# Altium integrated library Xilinx Kintex-7.IntLib: 108 symbols (part 9 of 39)
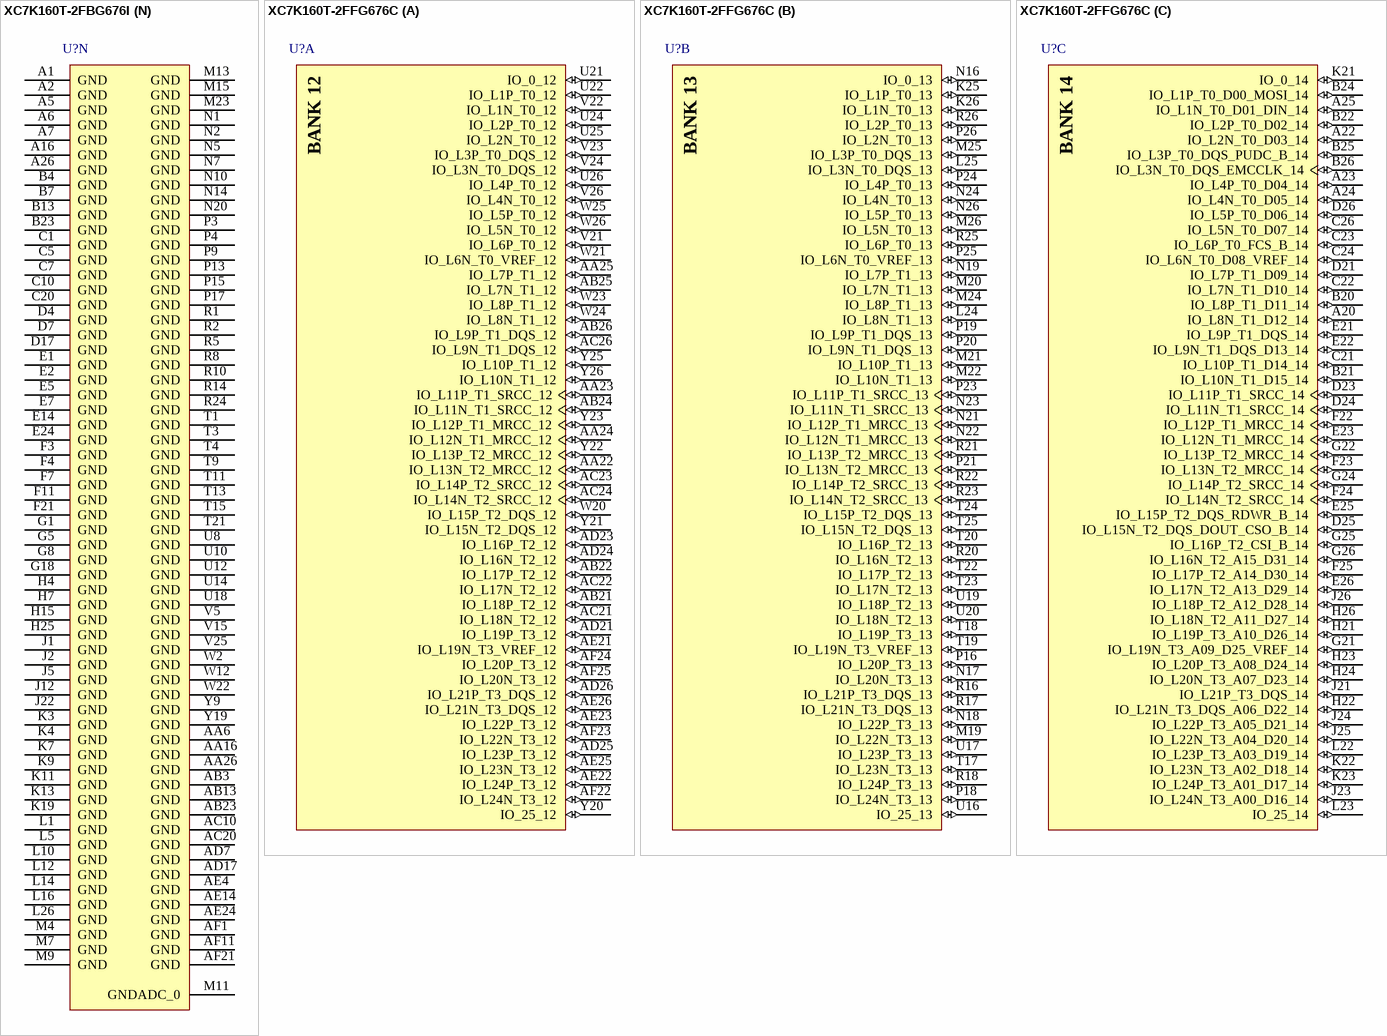
[diagram p300: symbols XC7K160T-2FBG676I to XC7K160T-2FFG676C]

## XC7K160T-2FBG676I
designator U?
Kintex-7 FPGA, 400 User I/Os, 8 GTX, 676-Ball BGA, Speed Grade 2, Industrial Grade, Pb-Free; Generic Part Number: XC7K160T; Manufacturer: Xilinx; PartNumber: XC7K160T-2FBG676I; GTX: 8; SelectIO HP: 150; SelectIO HR: 250; Speed Grade: -2; DatasheetVersion: v1.12; PackageVersion: Rev 1.8; PackageReference: FBG676; PackageDescription: Flip-Chip Lidless BGA, Body 27 x 27 mm, 1.0 mm Pitch; RoHS: Pb-Free; Mounting Technology: Surface Mount; Code_JEDEC: MS-034; ComponentLink1Description: Datasheet; ComponentLink1URL: http://www.xilinx.com/support/documentation/data_sheets/ds180_7Series_Overview.pdf; ComponentLink2Description: Package Specification; ComponentLink2URL: http://www.xilinx.com/support/documentation/user_guides/ug475_7Series_Pkg_Pinout.pdf
footprint FBG676 (BGA, 676-Balls, Body 27x27mm, Pitch 1.0mm)
part A pins: AA22 IO_L13N_T2_MRCC_12 (io), AA23 IO_L11P_T1_SRCC_12 (io), AA24 IO_L12N_T1_MRCC_12 (io), AA25 IO_L7P_T1_12 (io), AB21 IO_L18P_T2_12 (io), AB22 IO_L17P_T2_12 (io), AB24 IO_L11N_T1_SRCC_12 (io), AB25 IO_L7N_T1_12 (io), AB26 IO_L9P_T1_DQS_12 (io), AC21 IO_L18N_T2_12 (io), AC22 IO_L17N_T2_12 (io), AC23 IO_L14P_T2_SRCC_12 (io), AC24 IO_L14N_T2_SRCC_12 (io), AC26 IO_L9N_T1_DQS_12 (io), AD21 IO_L19P_T3_12 (io), AD23 IO_L16P_T2_12 (io), AD24 IO_L16N_T2_12 (io), AD25 IO_L23P_T3_12 (io), AD26 IO_L21P_T3_DQS_12 (io), AE21 IO_L19N_T3_VREF_12 (io), AE22 IO_L24P_T3_12 (io), AE23 IO_L22P_T3_12 (io), AE25 IO_L23N_T3_12 (io), AE26 IO_L21N_T3_DQS_12 (io), AF22 IO_L24N_T3_12 (io), AF23 IO_L22N_T3_12 (io), AF24 IO_L20P_T3_12 (io), AF25 IO_L20N_T3_12 (io), U21 IO_0_12 (io), U22 IO_L1P_T0_12 (io), U24 IO_L2P_T0_12 (io), U25 IO_L2N_T0_12 (io), U26 IO_L4P_T0_12 (io), V21 IO_L6P_T0_12 (io), V22 IO_L1N_T0_12 (io), V23 IO_L3P_T0_DQS_12 (io), V24 IO_L3N_T0_DQS_12 (io), V26 IO_L4N_T0_12 (io), W20 IO_L15P_T2_DQS_12 (io), W21 IO_L6N_T0_VREF_12 (io), W23 IO_L8P_T1_12 (io), W24 IO_L8N_T1_12 (io), W25 IO_L5P_T0_12 (io), W26 IO_L5N_T0_12 (io), Y20 IO_25_12 (io), Y21 IO_L15N_T2_DQS_12 (io), Y22 IO_L13P_T2_MRCC_12 (io), Y23 IO_L12P_T1_MRCC_12 (io), Y25 IO_L10P_T1_12 (io), Y26 IO_L10N_T1_12 (io)
part B pins: K25 IO_L1P_T0_13 (io), K26 IO_L1N_T0_13 (io), L24 IO_L8N_T1_13 (io), L25 IO_L3N_T0_DQS_13 (io), M19 IO_L22N_T3_13 (io), M20 IO_L7N_T1_13 (io), M21 IO_L10P_T1_13 (io), M22 IO_L10N_T1_13 (io), M24 IO_L8P_T1_13 (io), M25 IO_L3P_T0_DQS_13 (io), M26 IO_L5N_T0_13 (io), N16 IO_0_13 (io), N17 IO_L20N_T3_13 (io), N18 IO_L22P_T3_13 (io), N19 IO_L7P_T1_13 (io), N21 IO_L12P_T1_MRCC_13 (io), N22 IO_L12N_T1_MRCC_13 (io), N23 IO_L11N_T1_SRCC_13 (io), N24 IO_L4N_T0_13 (io), N26 IO_L5P_T0_13 (io), P16 IO_L20P_T3_13 (io), P18 IO_L24N_T3_13 (io), P19 IO_L9P_T1_DQS_13 (io), P20 IO_L9N_T1_DQS_13 (io), P21 IO_L13N_T2_MRCC_13 (io), P23 IO_L11P_T1_SRCC_13 (io), P24 IO_L4P_T0_13 (io), P25 IO_L6N_T0_VREF_13 (io), P26 IO_L2N_T0_13 (io), R16 IO_L21P_T3_DQS_13 (io), R17 IO_L21N_T3_DQS_13 (io), R18 IO_L24P_T3_13 (io), R20 IO_L16N_T2_13 (io), R21 IO_L13P_T2_MRCC_13 (io), R22 IO_L14P_T2_SRCC_13 (io), R23 IO_L14N_T2_SRCC_13 (io), R25 IO_L6P_T0_13 (io), R26 IO_L2P_T0_13 (io), T17 IO_L23N_T3_13 (io), T18 IO_L19P_T3_13 (io), T19 IO_L19N_T3_VREF_13 (io), T20 IO_L16P_T2_13 (io), T22 IO_L17P_T2_13 (io), T23 IO_L17N_T2_13 (io), T24 IO_L15P_T2_DQS_13 (io), T25 IO_L15N_T2_DQS_13 (io), U16 IO_25_13 (io), U17 IO_L23P_T3_13 (io), U19 IO_L18P_T2_13 (io), U20 IO_L18N_T2_13 (io)
part C pins: A20 IO_L8N_T1_D12_14 (io), A22 IO_L2N_T0_D03_14 (io), A23 IO_L4P_T0_D04_14 (io), A24 IO_L4N_T0_D05_14 (io), A25 IO_L1N_T0_D01_DIN_14 (io), B20 IO_L8P_T1_D11_14 (io), B21 IO_L10N_T1_D15_14 (io), B22 IO_L2P_T0_D02_14 (io), B24 IO_L1P_T0_D00_MOSI_14 (io), B25 IO_L3P_T0_DQS_PUDC_B_14 (io), B26 IO_L3N_T0_DQS_EMCCLK_14 (io), C21 IO_L10P_T1_D14_14 (io), C22 IO_L7N_T1_D10_14 (io), C23 IO_L6P_T0_FCS_B_14 (io), C24 IO_L6N_T0_D08_VREF_14 (io), C26 IO_L5N_T0_D07_14 (io), D21 IO_L7P_T1_D09_14 (io), D23 IO_L11P_T1_SRCC_14 (io), D24 IO_L11N_T1_SRCC_14 (io), D25 IO_L15N_T2_DQS_DOUT_CSO_B_14 (io), D26 IO_L5P_T0_D06_14 (io), E21 IO_L9P_T1_DQS_14 (io), E22 IO_L9N_T1_DQS_D13_14 (io), E23 IO_L12N_T1_MRCC_14 (io), E25 IO_L15P_T2_DQS_RDWR_B_14 (io), E26 IO_L17N_T2_A13_D29_14 (io), F22 IO_L12P_T1_MRCC_14 (io), F23 IO_L13N_T2_MRCC_14 (io), F24 IO_L14N_T2_SRCC_14 (io), F25 IO_L17P_T2_A14_D30_14 (io), G21 IO_L19N_T3_A09_D25_VREF_14 (io), G22 IO_L13P_T2_MRCC_14 (io), G24 IO_L14P_T2_SRCC_14 (io), G25 IO_L16P_T2_CSI_B_14 (io), G26 IO_L16N_T2_A15_D31_14 (io), H21 IO_L19P_T3_A10_D26_14 (io), H22 IO_L21N_T3_DQS_A06_D22_14 (io), H23 IO_L20P_T3_A08_D24_14 (io), H24 IO_L20N_T3_A07_D23_14 (io), H26 IO_L18N_T2_A11_D27_14 (io), J21 IO_L21P_T3_DQS_14 (io), J23 IO_L24N_T3_A00_D16_14 (io), J24 IO_L22P_T3_A05_D21_14 (io), J25 IO_L22N_T3_A04_D20_14 (io), J26 IO_L18P_T2_A12_D28_14 (io), K21 IO_0_14 (io), K22 IO_L23N_T3_A02_D18_14 (io), K23 IO_L24P_T3_A01_D17_14 (io), L22 IO_L23P_T3_A03_D19_14 (io), L23 IO_25_14 (io)
part D pins: A17 IO_L3N_T0_DQS_AD1N_15 (io), A18 IO_L2P_T0_AD8P_15 (io), A19 IO_L2N_T0_AD8N_15 (io), B16 IO_L1N_T0_AD0N_15 (io), B17 IO_L3P_T0_DQS_AD1P_15 (io), B19 IO_L4N_T0_AD9N_15 (io), C16 IO_L1P_T0_AD0P_15 (io), C17 IO_L5P_T0_AD2P_15 (io), C18 IO_L5N_T0_AD2N_15 (io), C19 IO_L4P_T0_AD9P_15 (io), D15 IO_L6P_T0_15 (io), D16 IO_L6N_T0_VREF_15 (io), D18 IO_L13N_T2_MRCC_15 (io), D19 IO_L15P_T2_DQS_15 (io), D20 IO_L15N_T2_DQS_ADV_B_15 (io), E15 IO_L10P_T1_AD4P_15 (io), E16 IO_L10N_T1_AD4N_15 (io), E17 IO_L12N_T1_MRCC_AD5N_15 (io), E18 IO_L13P_T2_MRCC_15 (io), E20 IO_L17N_T2_A25_15 (io), F15 IO_L8N_T1_AD3N_15 (io), F17 IO_L12P_T1_MRCC_AD5P_15 (io), F18 IO_L11N_T1_SRCC_AD12N_15 (io), F19 IO_L17P_T2_A26_15 (io), F20 IO_L16N_T2_A27_15 (io), G15 IO_L8P_T1_AD3P_15 (io), G16 IO_L7N_T1_AD10N_15 (io), G17 IO_L11P_T1_SRCC_AD12P_15 (io), G19 IO_L16P_T2_A28_15 (io), G20 IO_L18N_T2_A23_15 (io), H16 IO_L7P_T1_AD10P_15 (io), H17 IO_L14P_T2_SRCC_15 (io), H18 IO_L14N_T2_SRCC_15 (io), H19 IO_L18P_T2_A24_15 (io), J15 IO_L9P_T1_DQS_AD11P_15 (io), J16 IO_L9N_T1_DQS_AD11N_15 (io), J18 IO_L20P_T3_A20_15 (io), J19 IO_L20N_T3_A19_15 (io), J20 IO_L19N_T3_A21_VREF_15 (io), K15 IO_0_15 (io), K16 IO_L22P_T3_A17_15 (io), K17 IO_L22N_T3_A16_15 (io), K18 IO_L24N_T3_RS0_15 (io), K20 IO_L19P_T3_A22_15 (io), L17 IO_L24P_T3_RS1_15 (io), L18 IO_L23N_T3_FWE_B_15 (io), L19 IO_L21P_T3_DQS_15 (io), L20 IO_L21N_T3_DQS_A18_15 (io), M16 IO_25_15 (io), M17 IO_L23P_T3_FOE_B_15 (io)
part E pins: A8 IO_L9N_T1_DQS_16 (io), A9 IO_L9P_T1_DQS_16 (io), A10 IO_L22N_T3_16 (io), A12 IO_L24N_T3_16 (io), A13 IO_L24P_T3_16 (io), A14 IO_L21N_T3_DQS_16 (io), A15 IO_L23N_T3_16 (io), B9 IO_L10N_T1_16 (io), B10 IO_L22P_T3_16 (io), B11 IO_L20N_T3_16 (io), B12 IO_L20P_T3_16 (io), B14 IO_L21P_T3_DQS_16 (io), B15 IO_L23P_T3_16 (io), C9 IO_L10P_T1_16 (io), C11 IO_L13N_T2_MRCC_16 (io), C12 IO_L13P_T2_MRCC_16 (io), C13 IO_L19N_T3_VREF_16 (io), C14 IO_L19P_T3_16 (io), D8 IO_L8N_T1_16 (io), D9 IO_L8P_T1_16 (io), D10 IO_L12N_T1_MRCC_16 (io), D11 IO_L14N_T2_SRCC_16 (io), D13 IO_L17N_T2_16 (io), D14 IO_L17P_T2_16 (io), E10 IO_L12P_T1_MRCC_16 (io), E11 IO_L14P_T2_SRCC_16 (io), E12 IO_L18N_T2_16 (io), E13 IO_L18P_T2_16 (io), F8 IO_L7N_T1_16 (io), F9 IO_L7P_T1_16 (io), F10 IO_L11N_T1_SRCC_16 (io), F12 IO_L16N_T2_16 (io), F13 IO_L15N_T2_DQS_16 (io), F14 IO_L15P_T2_DQS_16 (io), G9 IO_L2N_T0_16 (io), G10 IO_L2P_T0_16 (io), G11 IO_L11P_T1_SRCC_16 (io), G12 IO_L16P_T2_16 (io), G14 IO_L5N_T0_16 (io), H8 IO_L1N_T0_16 (io), H9 IO_L1P_T0_16 (io), H11 IO_L6N_T0_VREF_16 (io), H12 IO_L6P_T0_16 (io), H13 IO_L3N_T0_DQS_16 (io), H14 IO_L5P_T0_16 (io), J8 IO_0_16 (io), J10 IO_L4N_T0_16 (io), J11 IO_L4P_T0_16 (io), J13 IO_L3P_T0_DQS_16 (io), J14 IO_25_16 (io)
part F pins: AA14 IO_L7P_T1_32 (io), AA15 IO_L7N_T1_32 (io), AA17 IO_L11P_T1_SRCC_32 (io), AA18 IO_L11N_T1_SRCC_32 (io), AA19 IO_L16P_T2_32 (io), AA20 IO_L16N_T2_32 (io), AB14 IO_L10P_T1_32 (io), AB15 IO_L10N_T1_32 (io), AB16 IO_L12P_T1_MRCC_32 (io), AB17 IO_L14P_T2_SRCC_32 (io), AB19 IO_L18P_T2_32 (io), AB20 IO_L18N_T2_32 (io), AC14 IO_L8P_T1_32 (io), AC16 IO_L12N_T1_MRCC_32 (io), AC17 IO_L14N_T2_SRCC_32 (io), AC18 IO_L13P_T2_MRCC_32 (io), AC19 IO_L17P_T2_32 (io), AD14 IO_L8N_T1_32 (io), AD15 IO_L4P_T0_32 (io), AD16 IO_L6P_T0_32 (io), AD18 IO_L13N_T2_MRCC_32 (io), AD19 IO_L17N_T2_32 (io), AD20 IO_L15P_T2_DQS_32 (io), AE15 IO_L4N_T0_32 (io), AE16 IO_L6N_T0_VREF_32 (io), AE17 IO_L1P_T0_32 (io), AE18 IO_L3P_T0_DQS_32 (io), AE20 IO_L15N_T2_DQS_32 (io), AF14 IO_L2P_T0_32 (io), AF15 IO_L2N_T0_32 (io), AF17 IO_L1N_T0_32 (io), AF18 IO_L3N_T0_DQS_32 (io), AF19 IO_L5P_T0_32 (io), AF20 IO_L5N_T0_32 (io), V13 IO_0_VRN_32 (io), V14 IO_L24P_T3_32 (io), V16 IO_L20P_T3_32 (io), V17 IO_L20N_T3_32 (io), V18 IO_L23P_T3_32 (io), V19 IO_L23N_T3_32 (io), W13 IO_25_VRP_32 (io), W14 IO_L24N_T3_32 (io), W15 IO_L22P_T3_32 (io), W16 IO_L22N_T3_32 (io), W18 IO_L21P_T3_DQS_32 (io), W19 IO_L21N_T3_DQS_32 (io), Y15 IO_L9P_T1_DQS_32 (io), Y16 IO_L9N_T1_DQS_32 (io), Y17 IO_L19P_T3_32 (io), Y18 IO_L19N_T3_VREF_32 (io)
part G pins: AA7 IO_L8N_T1_33 (io), AA8 IO_L8P_T1_33 (io), AA9 IO_L11P_T1_SRCC_33 (io), AA10 IO_L14P_T2_SRCC_33 (io), AA12 IO_L16N_T2_33 (io), AA13 IO_L16P_T2_33 (io), AB7 IO_L10P_T1_33 (io), AB9 IO_L11N_T1_SRCC_33 (io), AB10 IO_L14N_T2_SRCC_33 (io), AB11 IO_L13P_T2_MRCC_33 (io), AB12 IO_L15P_T2_DQS_33 (io), AC7 IO_L10N_T1_33 (io), AC8 IO_L9P_T1_DQS_33 (io), AC9 IO_L12P_T1_MRCC_33 (io), AC11 IO_L13N_T2_MRCC_33 (io), AC12 IO_L15N_T2_DQS_33 (io), AC13 IO_L17P_T2_33 (io), AD8 IO_L9N_T1_DQS_33 (io), AD9 IO_L12N_T1_MRCC_33 (io), AD10 IO_L20P_T3_33 (io), AD11 IO_L19P_T3_33 (io), AD13 IO_L17N_T2_33 (io), AE7 IO_L7P_T1_33 (io), AE8 IO_L22P_T3_33 (io), AE10 IO_L20N_T3_33 (io), AE11 IO_L19N_T3_VREF_33 (io), AE12 IO_L21P_T3_DQS_33 (io), AE13 IO_L23P_T3_33 (io), AF7 IO_L7N_T1_33 (io), AF8 IO_L22N_T3_33 (io), AF9 IO_L24N_T3_33 (io), AF10 IO_L24P_T3_33 (io), AF12 IO_L21N_T3_DQS_33 (io), AF13 IO_L23N_T3_33 (io), U9 IO_0_VRN_33 (io), V7 IO_L2N_T0_33 (io), V8 IO_L2P_T0_33 (io), V9 IO_L6P_T0_33 (io), V11 IO_L1P_T0_33 (io), V12 IO_25_VRP_33 (io), W8 IO_L6N_T0_VREF_33 (io), W9 IO_L3N_T0_DQS_33 (io), W10 IO_L3P_T0_DQS_33 (io), W11 IO_L1N_T0_33 (io), Y7 IO_L4N_T0_33 (io), Y8 IO_L4P_T0_33 (io), Y10 IO_L5N_T0_33 (io), Y11 IO_L5P_T0_33 (io), Y12 IO_L18N_T2_33 (io), Y13 IO_L18P_T2_33 (io)
part H pins: AA2 IO_L12N_T1_MRCC_34 (io), AA3 IO_L12P_T1_MRCC_34 (io), AA4 IO_L13P_T2_MRCC_34 (io), AA5 IO_L15P_T2_DQS_34 (io), AB1 IO_L9P_T1_DQS_34 (io), AB2 IO_L11P_T1_SRCC_34 (io), AB4 IO_L13N_T2_MRCC_34 (io), AB5 IO_L15N_T2_DQS_34 (io), AB6 IO_L16P_T2_34 (io), AC1 IO_L9N_T1_DQS_34 (io), AC2 IO_L11N_T1_SRCC_34 (io), AC3 IO_L14N_T2_SRCC_34 (io), AC4 IO_L14P_T2_SRCC_34 (io), AC6 IO_L16N_T2_34 (io), AD1 IO_L20P_T3_34 (io), AD3 IO_L19N_T3_VREF_34 (io), AD4 IO_L19P_T3_34 (io), AD5 IO_L18N_T2_34 (io), AD6 IO_L18P_T2_34 (io), AE1 IO_L20N_T3_34 (io), AE2 IO_L22N_T3_34 (io), AE3 IO_L22P_T3_34 (io), AE5 IO_L23N_T3_34 (io), AE6 IO_L23P_T3_34 (io), AF2 IO_L24N_T3_34 (io), AF3 IO_L24P_T3_34 (io), AF4 IO_L21N_T3_DQS_34 (io), AF5 IO_L21P_T3_DQS_34 (io), T7 IO_25_VRP_34 (io), U1 IO_L2N_T0_34 (io), U2 IO_L2P_T0_34 (io), U4 IO_0_VRN_34 (io), U5 IO_L1N_T0_34 (io), U6 IO_L1P_T0_34 (io), U7 IO_L5P_T0_34 (io), V1 IO_L8N_T1_34 (io), V2 IO_L8P_T1_34 (io), V3 IO_L4P_T0_34 (io), V4 IO_L6P_T0_34 (io), V6 IO_L5N_T0_34 (io), W1 IO_L10P_T1_34 (io), W3 IO_L4N_T0_34 (io), W4 IO_L6N_T0_VREF_34 (io), W5 IO_L3N_T0_DQS_34 (io), W6 IO_L3P_T0_DQS_34 (io), Y1 IO_L10N_T1_34 (io), Y2 IO_L7N_T1_34 (io), Y3 IO_L7P_T1_34 (io), Y5 IO_L17N_T2_34 (io), Y6 IO_L17P_T2_34 (io)
part I pins: C8 CCLK_0 (io), G7 INIT_B_0 (io), J7 DONE_0 (io), L8 TCK_0 (in), N8 TMS_0 (in), N11 VREFN_0 (in), N12 VP_0 (in), P5 M2_0 (in), P6 PROGRAM_B_0 (in), P7 CFGBVS_0 (in), P11 VN_0 (in), P12 VREFP_0 (in), R6 TDI_0 (in), R7 TDO_0 (out), R11 DXN_0 (in), R12 DXP_0 (in), T2 M1_0 (in), T5 M0_0 (in)
part J pins: A3 MGTXTXN3_116 (out), A4 MGTXTXP3_116 (out), B1 MGTXTXN2_116 (out), B2 MGTXTXP2_116 (out), B5 MGTXRXN3_116 (in), B6 MGTXRXP3_116 (in), C3 MGTXRXN2_116 (in), C4 MGTXRXP2_116 (in), D1 MGTXTXN1_116 (out), D2 MGTXTXP1_116 (out), D5 MGTREFCLK0N_116 (in), D6 MGTREFCLK0P_116 (in), E3 MGTXRXN1_116 (in), E4 MGTXRXP1_116 (in), F1 MGTXTXN0_116 (out), F2 MGTXTXP0_116 (out), F5 MGTREFCLK1N_116 (in), F6 MGTREFCLK1P_116 (in), G3 MGTXRXN0_116 (in), G4 MGTXRXP0_116 (in), H1 MGTXTXN3_115 (out), H2 MGTXTXP3_115 (out), H5 MGTREFCLK0N_115 (in), H6 MGTREFCLK0P_115 (in), J3 MGTXRXN3_115 (in), J4 MGTXRXP3_115 (in), K1 MGTXTXN2_115 (out), K2 MGTXTXP2_115 (out), K5 MGTREFCLK1N_115 (in), K6 MGTREFCLK1P_115 (in), L3 MGTXRXN2_115 (in), L4 MGTXRXP2_115 (in), M1 MGTXTXN1_115 (out), M2 MGTXTXP1_115 (out), M5 MGTAVTTRCAL_115, M6 MGTRREF_115 (in), N3 MGTXRXN1_115 (in), N4 MGTXRXP1_115 (in), P1 MGTXTXN0_115 (out), P2 MGTXTXP0_115 (out), R3 MGTXRXN0_115 (in), R4 MGTXRXP0_115 (in)
part K pins: B3 MGTAVTT (power), C2 MGTAVTT (power), C6 MGTAVCC (power), D3 MGTAVTT (power), E6 MGTAVCC (power), G2 MGTAVTT (power), G6 MGTAVCC (power), H3 MGTAVTT (power), J6 MGTAVCC (power), L2 MGTAVTT (power), L6 MGTAVCC (power), M3 MGTAVTT (power), N6 MGTVCCAUX (power)
part L pins: A11 VCCO_16 (power), A21 VCCO_14 (power), AA1 VCCO_34 (power), AA11 VCCO_33 (power), AA21 VCCO_12 (power), AB8 VCCO_33 (power), AB18 VCCO_32 (power), AC5 VCCO_34 (power), AC15 VCCO_32 (power), AC25 VCCO_12 (power), AD2 VCCO_34 (power), AD12 VCCO_33 (power), AD22 VCCO_12 (power), AE9 VCCO_33 (power), AE19 VCCO_32 (power), AF6 VCCO_34 (power), AF16 VCCO_32 (power), AF26 VCCO_12 (power), B8 VCCO_16 (power), B18 VCCO_15 (power), C15 VCCO_16 (power), C25 VCCO_14 (power), D12 VCCO_16 (power), D22 VCCO_14 (power), E9 VCCO_16 (power), E19 VCCO_15 (power), F16 VCCO_15 (power), F26 VCCO_14 (power), G13 VCCO_16 (power), G23 VCCO_14 (power), H10 VCCO_16 (power), H20 VCCO_15 (power), J17 VCCO_15 (power), K24 VCCO_13 (power), L7 VCCO_0 (power), L21 VCCO_14 (power), M18 VCCO_15 (power), N25 VCCO_13 (power), P22 VCCO_13 (power), R19 VCCO_13 (power), T6 VCCO_0 (power), T16 VCCO_13 (power), T26 VCCO_13 (power), U3 VCCO_34 (power), U23 VCCO_12 (power), V10 VCCO_33 (power), V20 VCCO_12 (power), W7 VCCO_33 (power), W17 VCCO_32 (power), Y4 VCCO_34 (power), Y14 VCCO_32 (power), Y24 VCCO_12 (power)
part M pins: E8 VCCBATT_0 (power), J9 VCCINT (power), K8 VCCINT (power), K10 VCCINT (power), K12 VCCINT (power), K14 VCCINT (power), L9 VCCINT (power), L11 VCCAUX (power), L13 VCCINT (power), L15 VCCINT (power), M8 VCCINT (power), M10 VCCAUX (power), M12 VCCADC_0 (power), M14 VCCINT (power), N9 VCCINT (power), N13 VCCBRAM (power), N15 VCCINT (power), P8 VCCAUX_IO_G0 (power), P10 VCCAUX (power), P14 VCCINT (power), R9 VCCAUX_IO_G0 (power), R13 VCCBRAM (power), R15 VCCINT (power), T8 VCCAUX_IO_G0 (power), T10 VCCAUX (power), T12 VCCBRAM (power), T14 VCCINT (power), U11 VCCAUX (power), U13 VCCBRAM (power), U15 VCCINT (power)
part N pins: A1 GND (power), A2 GND (power), A5 GND (power), A6 GND (power), A7 GND (power), A16 GND (power), A26 GND (power), AA6 GND (power), AA16 GND (power), AA26 GND (power), AB3 GND (power), AB13 GND (power), AB23 GND (power), AC10 GND (power), AC20 GND (power), AD7 GND (power), AD17 GND (power), AE4 GND (power), AE14 GND (power), AE24 GND (power), AF1 GND (power), AF11 GND (power), AF21 GND (power), B4 GND (power), B7 GND (power), B13 GND (power), B23 GND (power), C1 GND (power), C5 GND (power), C7 GND (power), C10 GND (power), C20 GND (power), D4 GND (power), D7 GND (power), D17 GND (power), E1 GND (power), E2 GND (power), E5 GND (power), E7 GND (power), E14 GND (power), E24 GND (power), F3 GND (power), F4 GND (power), F7 GND (power), F11 GND (power), F21 GND (power), G1 GND (power), G5 GND (power), G8 GND (power), G18 GND (power), H4 GND (power), H7 GND (power), H15 GND (power), H25 GND (power), J1 GND (power), J2 GND (power), J5 GND (power), J12 GND (power), J22 GND (power), K3 GND (power), K4 GND (power), K7 GND (power), K9 GND (power), K11 GND (power), K13 GND (power), K19 GND (power), L1 GND (power), L5 GND (power), L10 GND (power), L12 GND (power), L14 GND (power), L16 GND (power), L26 GND (power), M4 GND (power), M7 GND (power), M9 GND (power), M11 GNDADC_0 (power), M13 GND (power), M15 GND (power), M23 GND (power), N1 GND (power), N2 GND (power), N5 GND (power), N7 GND (power), N10 GND (power), N14 GND (power), N20 GND (power), P3 GND (power), P4 GND (power), P9 GND (power), P13 GND (power), P15 GND (power), P17 GND (power), R1 GND (power), R2 GND (power), R5 GND (power), R8 GND (power), R10 GND (power), R14 GND (power), R24 GND (power), T1 GND (power), T3 GND (power), T4 GND (power), T9 GND (power), T11 GND (power), T13 GND (power), T15 GND (power), T21 GND (power), U8 GND (power), U10 GND (power), U12 GND (power), U14 GND (power), U18 GND (power), V5 GND (power), V15 GND (power), V25 GND (power), W2 GND (power), W12 GND (power), W22 GND (power), Y9 GND (power), Y19 GND (power)
part A text: BANK 12
part B text: BANK 13
part C text: BANK 14
part D text: BANK 15
part E text: BANK 16
part F text: BANK 32
part G text: BANK 33
part H text: BANK 34

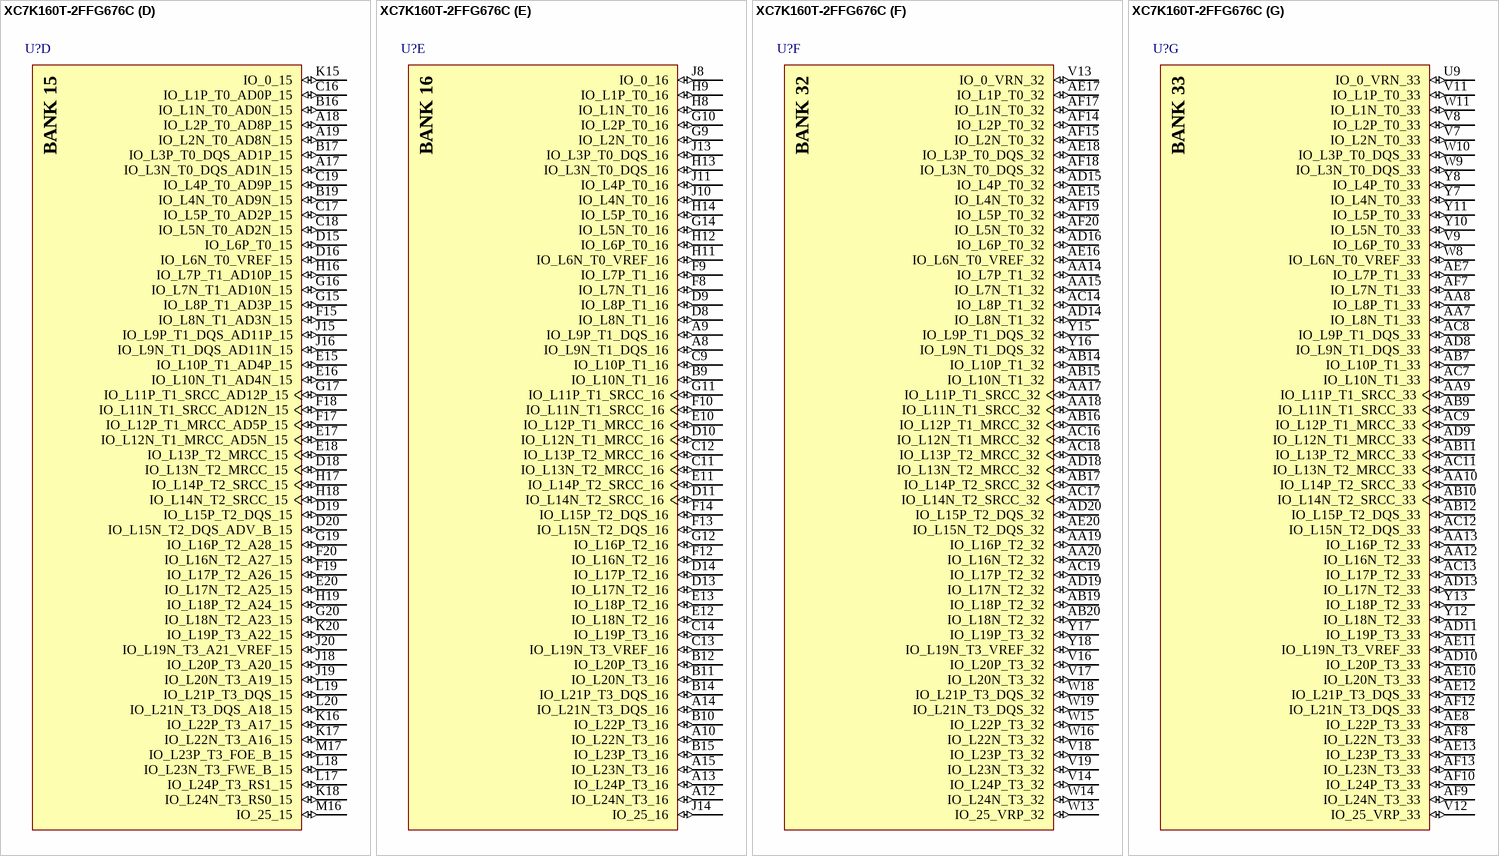
[diagram p47: symbol XC7K160T-2FFG676C]

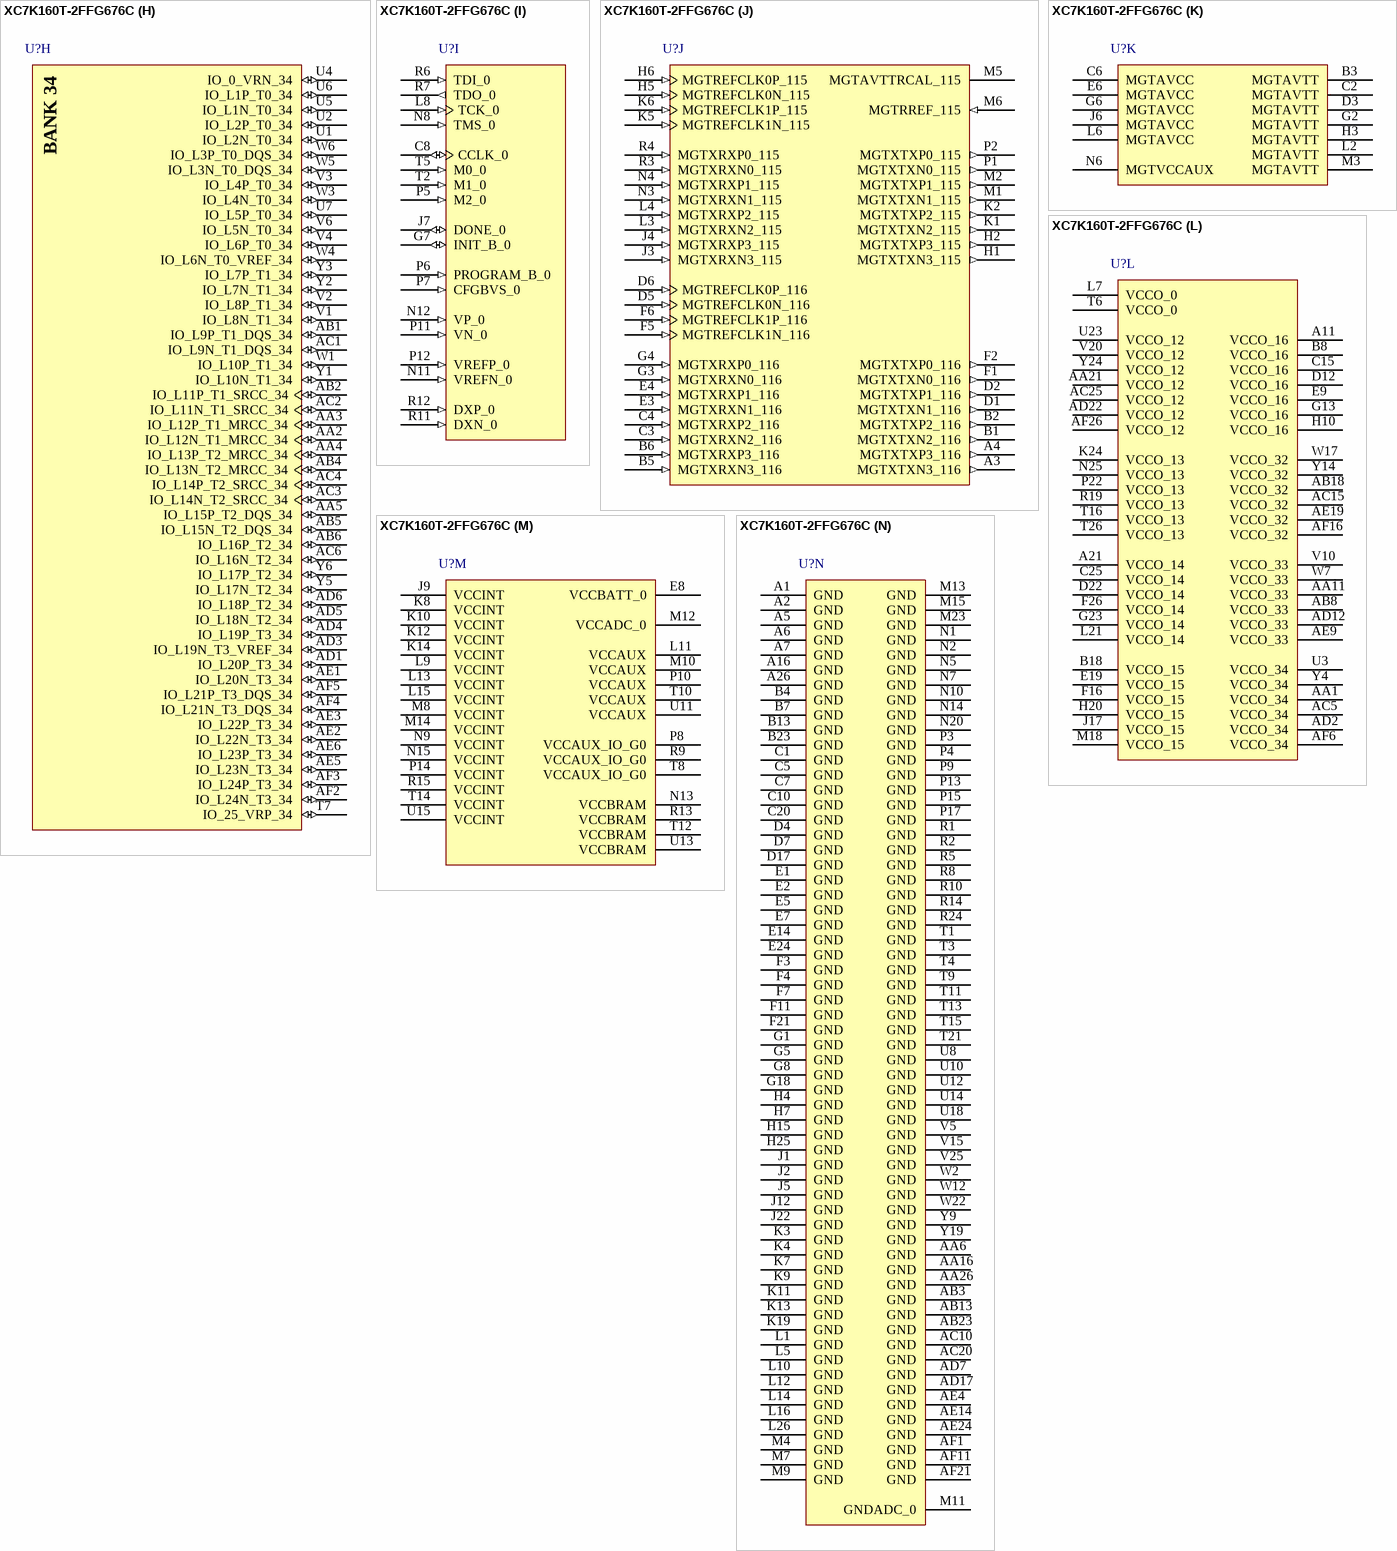
[diagram p48: symbol XC7K160T-2FFG676C]

## XC7K160T-2FFG676C
designator U?
Kintex-7 FPGA, 400 User I/Os, 8 GTX, 676-Ball BGA, Speed Grade 2, Commercial Grade, Pb-Free; Generic Part Number: XC7K160T; Manufacturer: Xilinx; PartNumber: XC7K160T-2FFG676C; GTX: 8; SelectIO HP: 150; SelectIO HR: 250; Speed Grade: -2; DatasheetVersion: v1.12; PackageVersion: Rev 1.1; PackageReference: FFG676; PackageDescription: Flip-Chip BGA, Body 27 x 27 mm, 1.0 mm Pitch; RoHS: Pb-Free; Mounting Technology: Surface Mount; Code_JEDEC: MS-034-AAL-1; ComponentLink1Description: Datasheet; ComponentLink1URL: http://www.xilinx.com/support/documentation/data_sheets/ds180_7Series_Overview.pdf; ComponentLink2Description: Package Specification; ComponentLink2URL: http://www.xilinx.com/support/documentation/user_guides/ug865-Zynq-7000-Pkg-Pinout.pdf
footprint FFG676 (BGA, 676-Balls, Body 27x27mm, Pitch 1.0mm)
part A pins: AA22 IO_L13N_T2_MRCC_12 (io), AA23 IO_L11P_T1_SRCC_12 (io), AA24 IO_L12N_T1_MRCC_12 (io), AA25 IO_L7P_T1_12 (io), AB21 IO_L18P_T2_12 (io), AB22 IO_L17P_T2_12 (io), AB24 IO_L11N_T1_SRCC_12 (io), AB25 IO_L7N_T1_12 (io), AB26 IO_L9P_T1_DQS_12 (io), AC21 IO_L18N_T2_12 (io), AC22 IO_L17N_T2_12 (io), AC23 IO_L14P_T2_SRCC_12 (io), AC24 IO_L14N_T2_SRCC_12 (io), AC26 IO_L9N_T1_DQS_12 (io), AD21 IO_L19P_T3_12 (io), AD23 IO_L16P_T2_12 (io), AD24 IO_L16N_T2_12 (io), AD25 IO_L23P_T3_12 (io), AD26 IO_L21P_T3_DQS_12 (io), AE21 IO_L19N_T3_VREF_12 (io), AE22 IO_L24P_T3_12 (io), AE23 IO_L22P_T3_12 (io), AE25 IO_L23N_T3_12 (io), AE26 IO_L21N_T3_DQS_12 (io), AF22 IO_L24N_T3_12 (io), AF23 IO_L22N_T3_12 (io), AF24 IO_L20P_T3_12 (io), AF25 IO_L20N_T3_12 (io), U21 IO_0_12 (io), U22 IO_L1P_T0_12 (io), U24 IO_L2P_T0_12 (io), U25 IO_L2N_T0_12 (io), U26 IO_L4P_T0_12 (io), V21 IO_L6P_T0_12 (io), V22 IO_L1N_T0_12 (io), V23 IO_L3P_T0_DQS_12 (io), V24 IO_L3N_T0_DQS_12 (io), V26 IO_L4N_T0_12 (io), W20 IO_L15P_T2_DQS_12 (io), W21 IO_L6N_T0_VREF_12 (io), W23 IO_L8P_T1_12 (io), W24 IO_L8N_T1_12 (io), W25 IO_L5P_T0_12 (io), W26 IO_L5N_T0_12 (io), Y20 IO_25_12 (io), Y21 IO_L15N_T2_DQS_12 (io), Y22 IO_L13P_T2_MRCC_12 (io), Y23 IO_L12P_T1_MRCC_12 (io), Y25 IO_L10P_T1_12 (io), Y26 IO_L10N_T1_12 (io)
part B pins: K25 IO_L1P_T0_13 (io), K26 IO_L1N_T0_13 (io), L24 IO_L8N_T1_13 (io), L25 IO_L3N_T0_DQS_13 (io), M19 IO_L22N_T3_13 (io), M20 IO_L7N_T1_13 (io), M21 IO_L10P_T1_13 (io), M22 IO_L10N_T1_13 (io), M24 IO_L8P_T1_13 (io), M25 IO_L3P_T0_DQS_13 (io), M26 IO_L5N_T0_13 (io), N16 IO_0_13 (io), N17 IO_L20N_T3_13 (io), N18 IO_L22P_T3_13 (io), N19 IO_L7P_T1_13 (io), N21 IO_L12P_T1_MRCC_13 (io), N22 IO_L12N_T1_MRCC_13 (io), N23 IO_L11N_T1_SRCC_13 (io), N24 IO_L4N_T0_13 (io), N26 IO_L5P_T0_13 (io), P16 IO_L20P_T3_13 (io), P18 IO_L24N_T3_13 (io), P19 IO_L9P_T1_DQS_13 (io), P20 IO_L9N_T1_DQS_13 (io), P21 IO_L13N_T2_MRCC_13 (io), P23 IO_L11P_T1_SRCC_13 (io), P24 IO_L4P_T0_13 (io), P25 IO_L6N_T0_VREF_13 (io), P26 IO_L2N_T0_13 (io), R16 IO_L21P_T3_DQS_13 (io), R17 IO_L21N_T3_DQS_13 (io), R18 IO_L24P_T3_13 (io), R20 IO_L16N_T2_13 (io), R21 IO_L13P_T2_MRCC_13 (io), R22 IO_L14P_T2_SRCC_13 (io), R23 IO_L14N_T2_SRCC_13 (io), R25 IO_L6P_T0_13 (io), R26 IO_L2P_T0_13 (io), T17 IO_L23N_T3_13 (io), T18 IO_L19P_T3_13 (io), T19 IO_L19N_T3_VREF_13 (io), T20 IO_L16P_T2_13 (io), T22 IO_L17P_T2_13 (io), T23 IO_L17N_T2_13 (io), T24 IO_L15P_T2_DQS_13 (io), T25 IO_L15N_T2_DQS_13 (io), U16 IO_25_13 (io), U17 IO_L23P_T3_13 (io), U19 IO_L18P_T2_13 (io), U20 IO_L18N_T2_13 (io)
part C pins: A20 IO_L8N_T1_D12_14 (io), A22 IO_L2N_T0_D03_14 (io), A23 IO_L4P_T0_D04_14 (io), A24 IO_L4N_T0_D05_14 (io), A25 IO_L1N_T0_D01_DIN_14 (io), B20 IO_L8P_T1_D11_14 (io), B21 IO_L10N_T1_D15_14 (io), B22 IO_L2P_T0_D02_14 (io), B24 IO_L1P_T0_D00_MOSI_14 (io), B25 IO_L3P_T0_DQS_PUDC_B_14 (io), B26 IO_L3N_T0_DQS_EMCCLK_14 (io), C21 IO_L10P_T1_D14_14 (io), C22 IO_L7N_T1_D10_14 (io), C23 IO_L6P_T0_FCS_B_14 (io), C24 IO_L6N_T0_D08_VREF_14 (io), C26 IO_L5N_T0_D07_14 (io), D21 IO_L7P_T1_D09_14 (io), D23 IO_L11P_T1_SRCC_14 (io), D24 IO_L11N_T1_SRCC_14 (io), D25 IO_L15N_T2_DQS_DOUT_CSO_B_14 (io), D26 IO_L5P_T0_D06_14 (io), E21 IO_L9P_T1_DQS_14 (io), E22 IO_L9N_T1_DQS_D13_14 (io), E23 IO_L12N_T1_MRCC_14 (io), E25 IO_L15P_T2_DQS_RDWR_B_14 (io), E26 IO_L17N_T2_A13_D29_14 (io), F22 IO_L12P_T1_MRCC_14 (io), F23 IO_L13N_T2_MRCC_14 (io), F24 IO_L14N_T2_SRCC_14 (io), F25 IO_L17P_T2_A14_D30_14 (io), G21 IO_L19N_T3_A09_D25_VREF_14 (io), G22 IO_L13P_T2_MRCC_14 (io), G24 IO_L14P_T2_SRCC_14 (io), G25 IO_L16P_T2_CSI_B_14 (io), G26 IO_L16N_T2_A15_D31_14 (io), H21 IO_L19P_T3_A10_D26_14 (io), H22 IO_L21N_T3_DQS_A06_D22_14 (io), H23 IO_L20P_T3_A08_D24_14 (io), H24 IO_L20N_T3_A07_D23_14 (io), H26 IO_L18N_T2_A11_D27_14 (io), J21 IO_L21P_T3_DQS_14 (io), J23 IO_L24N_T3_A00_D16_14 (io), J24 IO_L22P_T3_A05_D21_14 (io), J25 IO_L22N_T3_A04_D20_14 (io), J26 IO_L18P_T2_A12_D28_14 (io), K21 IO_0_14 (io), K22 IO_L23N_T3_A02_D18_14 (io), K23 IO_L24P_T3_A01_D17_14 (io), L22 IO_L23P_T3_A03_D19_14 (io), L23 IO_25_14 (io)
part D pins: A17 IO_L3N_T0_DQS_AD1N_15 (io), A18 IO_L2P_T0_AD8P_15 (io), A19 IO_L2N_T0_AD8N_15 (io), B16 IO_L1N_T0_AD0N_15 (io), B17 IO_L3P_T0_DQS_AD1P_15 (io), B19 IO_L4N_T0_AD9N_15 (io), C16 IO_L1P_T0_AD0P_15 (io), C17 IO_L5P_T0_AD2P_15 (io), C18 IO_L5N_T0_AD2N_15 (io), C19 IO_L4P_T0_AD9P_15 (io), D15 IO_L6P_T0_15 (io), D16 IO_L6N_T0_VREF_15 (io), D18 IO_L13N_T2_MRCC_15 (io), D19 IO_L15P_T2_DQS_15 (io), D20 IO_L15N_T2_DQS_ADV_B_15 (io), E15 IO_L10P_T1_AD4P_15 (io), E16 IO_L10N_T1_AD4N_15 (io), E17 IO_L12N_T1_MRCC_AD5N_15 (io), E18 IO_L13P_T2_MRCC_15 (io), E20 IO_L17N_T2_A25_15 (io), F15 IO_L8N_T1_AD3N_15 (io), F17 IO_L12P_T1_MRCC_AD5P_15 (io), F18 IO_L11N_T1_SRCC_AD12N_15 (io), F19 IO_L17P_T2_A26_15 (io), F20 IO_L16N_T2_A27_15 (io), G15 IO_L8P_T1_AD3P_15 (io), G16 IO_L7N_T1_AD10N_15 (io), G17 IO_L11P_T1_SRCC_AD12P_15 (io), G19 IO_L16P_T2_A28_15 (io), G20 IO_L18N_T2_A23_15 (io), H16 IO_L7P_T1_AD10P_15 (io), H17 IO_L14P_T2_SRCC_15 (io), H18 IO_L14N_T2_SRCC_15 (io), H19 IO_L18P_T2_A24_15 (io), J15 IO_L9P_T1_DQS_AD11P_15 (io), J16 IO_L9N_T1_DQS_AD11N_15 (io), J18 IO_L20P_T3_A20_15 (io), J19 IO_L20N_T3_A19_15 (io), J20 IO_L19N_T3_A21_VREF_15 (io), K15 IO_0_15 (io), K16 IO_L22P_T3_A17_15 (io), K17 IO_L22N_T3_A16_15 (io), K18 IO_L24N_T3_RS0_15 (io), K20 IO_L19P_T3_A22_15 (io), L17 IO_L24P_T3_RS1_15 (io), L18 IO_L23N_T3_FWE_B_15 (io), L19 IO_L21P_T3_DQS_15 (io), L20 IO_L21N_T3_DQS_A18_15 (io), M16 IO_25_15 (io), M17 IO_L23P_T3_FOE_B_15 (io)
part E pins: A8 IO_L9N_T1_DQS_16 (io), A9 IO_L9P_T1_DQS_16 (io), A10 IO_L22N_T3_16 (io), A12 IO_L24N_T3_16 (io), A13 IO_L24P_T3_16 (io), A14 IO_L21N_T3_DQS_16 (io), A15 IO_L23N_T3_16 (io), B9 IO_L10N_T1_16 (io), B10 IO_L22P_T3_16 (io), B11 IO_L20N_T3_16 (io), B12 IO_L20P_T3_16 (io), B14 IO_L21P_T3_DQS_16 (io), B15 IO_L23P_T3_16 (io), C9 IO_L10P_T1_16 (io), C11 IO_L13N_T2_MRCC_16 (io), C12 IO_L13P_T2_MRCC_16 (io), C13 IO_L19N_T3_VREF_16 (io), C14 IO_L19P_T3_16 (io), D8 IO_L8N_T1_16 (io), D9 IO_L8P_T1_16 (io), D10 IO_L12N_T1_MRCC_16 (io), D11 IO_L14N_T2_SRCC_16 (io), D13 IO_L17N_T2_16 (io), D14 IO_L17P_T2_16 (io), E10 IO_L12P_T1_MRCC_16 (io), E11 IO_L14P_T2_SRCC_16 (io), E12 IO_L18N_T2_16 (io), E13 IO_L18P_T2_16 (io), F8 IO_L7N_T1_16 (io), F9 IO_L7P_T1_16 (io), F10 IO_L11N_T1_SRCC_16 (io), F12 IO_L16N_T2_16 (io), F13 IO_L15N_T2_DQS_16 (io), F14 IO_L15P_T2_DQS_16 (io), G9 IO_L2N_T0_16 (io), G10 IO_L2P_T0_16 (io), G11 IO_L11P_T1_SRCC_16 (io), G12 IO_L16P_T2_16 (io), G14 IO_L5N_T0_16 (io), H8 IO_L1N_T0_16 (io), H9 IO_L1P_T0_16 (io), H11 IO_L6N_T0_VREF_16 (io), H12 IO_L6P_T0_16 (io), H13 IO_L3N_T0_DQS_16 (io), H14 IO_L5P_T0_16 (io), J8 IO_0_16 (io), J10 IO_L4N_T0_16 (io), J11 IO_L4P_T0_16 (io), J13 IO_L3P_T0_DQS_16 (io), J14 IO_25_16 (io)
part F pins: AA14 IO_L7P_T1_32 (io), AA15 IO_L7N_T1_32 (io), AA17 IO_L11P_T1_SRCC_32 (io), AA18 IO_L11N_T1_SRCC_32 (io), AA19 IO_L16P_T2_32 (io), AA20 IO_L16N_T2_32 (io), AB14 IO_L10P_T1_32 (io), AB15 IO_L10N_T1_32 (io), AB16 IO_L12P_T1_MRCC_32 (io), AB17 IO_L14P_T2_SRCC_32 (io), AB19 IO_L18P_T2_32 (io), AB20 IO_L18N_T2_32 (io), AC14 IO_L8P_T1_32 (io), AC16 IO_L12N_T1_MRCC_32 (io), AC17 IO_L14N_T2_SRCC_32 (io), AC18 IO_L13P_T2_MRCC_32 (io), AC19 IO_L17P_T2_32 (io), AD14 IO_L8N_T1_32 (io), AD15 IO_L4P_T0_32 (io), AD16 IO_L6P_T0_32 (io), AD18 IO_L13N_T2_MRCC_32 (io), AD19 IO_L17N_T2_32 (io), AD20 IO_L15P_T2_DQS_32 (io), AE15 IO_L4N_T0_32 (io), AE16 IO_L6N_T0_VREF_32 (io), AE17 IO_L1P_T0_32 (io), AE18 IO_L3P_T0_DQS_32 (io), AE20 IO_L15N_T2_DQS_32 (io), AF14 IO_L2P_T0_32 (io), AF15 IO_L2N_T0_32 (io), AF17 IO_L1N_T0_32 (io), AF18 IO_L3N_T0_DQS_32 (io), AF19 IO_L5P_T0_32 (io), AF20 IO_L5N_T0_32 (io), V13 IO_0_VRN_32 (io), V14 IO_L24P_T3_32 (io), V16 IO_L20P_T3_32 (io), V17 IO_L20N_T3_32 (io), V18 IO_L23P_T3_32 (io), V19 IO_L23N_T3_32 (io), W13 IO_25_VRP_32 (io), W14 IO_L24N_T3_32 (io), W15 IO_L22P_T3_32 (io), W16 IO_L22N_T3_32 (io), W18 IO_L21P_T3_DQS_32 (io), W19 IO_L21N_T3_DQS_32 (io), Y15 IO_L9P_T1_DQS_32 (io), Y16 IO_L9N_T1_DQS_32 (io), Y17 IO_L19P_T3_32 (io), Y18 IO_L19N_T3_VREF_32 (io)
part G pins: AA7 IO_L8N_T1_33 (io), AA8 IO_L8P_T1_33 (io), AA9 IO_L11P_T1_SRCC_33 (io), AA10 IO_L14P_T2_SRCC_33 (io), AA12 IO_L16N_T2_33 (io), AA13 IO_L16P_T2_33 (io), AB7 IO_L10P_T1_33 (io), AB9 IO_L11N_T1_SRCC_33 (io), AB10 IO_L14N_T2_SRCC_33 (io), AB11 IO_L13P_T2_MRCC_33 (io), AB12 IO_L15P_T2_DQS_33 (io), AC7 IO_L10N_T1_33 (io), AC8 IO_L9P_T1_DQS_33 (io), AC9 IO_L12P_T1_MRCC_33 (io), AC11 IO_L13N_T2_MRCC_33 (io), AC12 IO_L15N_T2_DQS_33 (io), AC13 IO_L17P_T2_33 (io), AD8 IO_L9N_T1_DQS_33 (io), AD9 IO_L12N_T1_MRCC_33 (io), AD10 IO_L20P_T3_33 (io), AD11 IO_L19P_T3_33 (io), AD13 IO_L17N_T2_33 (io), AE7 IO_L7P_T1_33 (io), AE8 IO_L22P_T3_33 (io), AE10 IO_L20N_T3_33 (io), AE11 IO_L19N_T3_VREF_33 (io), AE12 IO_L21P_T3_DQS_33 (io), AE13 IO_L23P_T3_33 (io), AF7 IO_L7N_T1_33 (io), AF8 IO_L22N_T3_33 (io), AF9 IO_L24N_T3_33 (io), AF10 IO_L24P_T3_33 (io), AF12 IO_L21N_T3_DQS_33 (io), AF13 IO_L23N_T3_33 (io), U9 IO_0_VRN_33 (io), V7 IO_L2N_T0_33 (io), V8 IO_L2P_T0_33 (io), V9 IO_L6P_T0_33 (io), V11 IO_L1P_T0_33 (io), V12 IO_25_VRP_33 (io), W8 IO_L6N_T0_VREF_33 (io), W9 IO_L3N_T0_DQS_33 (io), W10 IO_L3P_T0_DQS_33 (io), W11 IO_L1N_T0_33 (io), Y7 IO_L4N_T0_33 (io), Y8 IO_L4P_T0_33 (io), Y10 IO_L5N_T0_33 (io), Y11 IO_L5P_T0_33 (io), Y12 IO_L18N_T2_33 (io), Y13 IO_L18P_T2_33 (io)
part H pins: AA2 IO_L12N_T1_MRCC_34 (io), AA3 IO_L12P_T1_MRCC_34 (io), AA4 IO_L13P_T2_MRCC_34 (io), AA5 IO_L15P_T2_DQS_34 (io), AB1 IO_L9P_T1_DQS_34 (io), AB2 IO_L11P_T1_SRCC_34 (io), AB4 IO_L13N_T2_MRCC_34 (io), AB5 IO_L15N_T2_DQS_34 (io), AB6 IO_L16P_T2_34 (io), AC1 IO_L9N_T1_DQS_34 (io), AC2 IO_L11N_T1_SRCC_34 (io), AC3 IO_L14N_T2_SRCC_34 (io), AC4 IO_L14P_T2_SRCC_34 (io), AC6 IO_L16N_T2_34 (io), AD1 IO_L20P_T3_34 (io), AD3 IO_L19N_T3_VREF_34 (io), AD4 IO_L19P_T3_34 (io), AD5 IO_L18N_T2_34 (io), AD6 IO_L18P_T2_34 (io), AE1 IO_L20N_T3_34 (io), AE2 IO_L22N_T3_34 (io), AE3 IO_L22P_T3_34 (io), AE5 IO_L23N_T3_34 (io), AE6 IO_L23P_T3_34 (io), AF2 IO_L24N_T3_34 (io), AF3 IO_L24P_T3_34 (io), AF4 IO_L21N_T3_DQS_34 (io), AF5 IO_L21P_T3_DQS_34 (io), T7 IO_25_VRP_34 (io), U1 IO_L2N_T0_34 (io), U2 IO_L2P_T0_34 (io), U4 IO_0_VRN_34 (io), U5 IO_L1N_T0_34 (io), U6 IO_L1P_T0_34 (io), U7 IO_L5P_T0_34 (io), V1 IO_L8N_T1_34 (io), V2 IO_L8P_T1_34 (io), V3 IO_L4P_T0_34 (io), V4 IO_L6P_T0_34 (io), V6 IO_L5N_T0_34 (io), W1 IO_L10P_T1_34 (io), W3 IO_L4N_T0_34 (io), W4 IO_L6N_T0_VREF_34 (io), W5 IO_L3N_T0_DQS_34 (io), W6 IO_L3P_T0_DQS_34 (io), Y1 IO_L10N_T1_34 (io), Y2 IO_L7N_T1_34 (io), Y3 IO_L7P_T1_34 (io), Y5 IO_L17N_T2_34 (io), Y6 IO_L17P_T2_34 (io)
part I pins: C8 CCLK_0 (io), G7 INIT_B_0 (io), J7 DONE_0 (io), L8 TCK_0 (in), N8 TMS_0 (in), N11 VREFN_0 (in), N12 VP_0 (in), P5 M2_0 (in), P6 PROGRAM_B_0 (in), P7 CFGBVS_0 (in), P11 VN_0 (in), P12 VREFP_0 (in), R6 TDI_0 (in), R7 TDO_0 (out), R11 DXN_0 (in), R12 DXP_0 (in), T2 M1_0 (in), T5 M0_0 (in)
part J pins: A3 MGTXTXN3_116 (out), A4 MGTXTXP3_116 (out), B1 MGTXTXN2_116 (out), B2 MGTXTXP2_116 (out), B5 MGTXRXN3_116 (in), B6 MGTXRXP3_116 (in), C3 MGTXRXN2_116 (in), C4 MGTXRXP2_116 (in), D1 MGTXTXN1_116 (out), D2 MGTXTXP1_116 (out), D5 MGTREFCLK0N_116 (in), D6 MGTREFCLK0P_116 (in), E3 MGTXRXN1_116 (in), E4 MGTXRXP1_116 (in), F1 MGTXTXN0_116 (out), F2 MGTXTXP0_116 (out), F5 MGTREFCLK1N_116 (in), F6 MGTREFCLK1P_116 (in), G3 MGTXRXN0_116 (in), G4 MGTXRXP0_116 (in), H1 MGTXTXN3_115 (out), H2 MGTXTXP3_115 (out), H5 MGTREFCLK0N_115 (in), H6 MGTREFCLK0P_115 (in), J3 MGTXRXN3_115 (in), J4 MGTXRXP3_115 (in), K1 MGTXTXN2_115 (out), K2 MGTXTXP2_115 (out), K5 MGTREFCLK1N_115 (in), K6 MGTREFCLK1P_115 (in), L3 MGTXRXN2_115 (in), L4 MGTXRXP2_115 (in), M1 MGTXTXN1_115 (out), M2 MGTXTXP1_115 (out), M5 MGTAVTTRCAL_115, M6 MGTRREF_115 (in), N3 MGTXRXN1_115 (in), N4 MGTXRXP1_115 (in), P1 MGTXTXN0_115 (out), P2 MGTXTXP0_115 (out), R3 MGTXRXN0_115 (in), R4 MGTXRXP0_115 (in)
part K pins: B3 MGTAVTT (power), C2 MGTAVTT (power), C6 MGTAVCC (power), D3 MGTAVTT (power), E6 MGTAVCC (power), G2 MGTAVTT (power), G6 MGTAVCC (power), H3 MGTAVTT (power), J6 MGTAVCC (power), L2 MGTAVTT (power), L6 MGTAVCC (power), M3 MGTAVTT (power), N6 MGTVCCAUX (power)
part L pins: A11 VCCO_16 (power), A21 VCCO_14 (power), AA1 VCCO_34 (power), AA11 VCCO_33 (power), AA21 VCCO_12 (power), AB8 VCCO_33 (power), AB18 VCCO_32 (power), AC5 VCCO_34 (power), AC15 VCCO_32 (power), AC25 VCCO_12 (power), AD2 VCCO_34 (power), AD12 VCCO_33 (power), AD22 VCCO_12 (power), AE9 VCCO_33 (power), AE19 VCCO_32 (power), AF6 VCCO_34 (power), AF16 VCCO_32 (power), AF26 VCCO_12 (power), B8 VCCO_16 (power), B18 VCCO_15 (power), C15 VCCO_16 (power), C25 VCCO_14 (power), D12 VCCO_16 (power), D22 VCCO_14 (power), E9 VCCO_16 (power), E19 VCCO_15 (power), F16 VCCO_15 (power), F26 VCCO_14 (power), G13 VCCO_16 (power), G23 VCCO_14 (power), H10 VCCO_16 (power), H20 VCCO_15 (power), J17 VCCO_15 (power), K24 VCCO_13 (power), L7 VCCO_0 (power), L21 VCCO_14 (power), M18 VCCO_15 (power), N25 VCCO_13 (power), P22 VCCO_13 (power), R19 VCCO_13 (power), T6 VCCO_0 (power), T16 VCCO_13 (power), T26 VCCO_13 (power), U3 VCCO_34 (power), U23 VCCO_12 (power), V10 VCCO_33 (power), V20 VCCO_12 (power), W7 VCCO_33 (power), W17 VCCO_32 (power), Y4 VCCO_34 (power), Y14 VCCO_32 (power), Y24 VCCO_12 (power)
part M pins: E8 VCCBATT_0 (power), J9 VCCINT (power), K8 VCCINT (power), K10 VCCINT (power), K12 VCCINT (power), K14 VCCINT (power), L9 VCCINT (power), L11 VCCAUX (power), L13 VCCINT (power), L15 VCCINT (power), M8 VCCINT (power), M10 VCCAUX (power), M12 VCCADC_0 (power), M14 VCCINT (power), N9 VCCINT (power), N13 VCCBRAM (power), N15 VCCINT (power), P8 VCCAUX_IO_G0 (power), P10 VCCAUX (power), P14 VCCINT (power), R9 VCCAUX_IO_G0 (power), R13 VCCBRAM (power), R15 VCCINT (power), T8 VCCAUX_IO_G0 (power), T10 VCCAUX (power), T12 VCCBRAM (power), T14 VCCINT (power), U11 VCCAUX (power), U13 VCCBRAM (power), U15 VCCINT (power)
part N pins: A1 GND (power), A2 GND (power), A5 GND (power), A6 GND (power), A7 GND (power), A16 GND (power), A26 GND (power), AA6 GND (power), AA16 GND (power), AA26 GND (power), AB3 GND (power), AB13 GND (power), AB23 GND (power), AC10 GND (power), AC20 GND (power), AD7 GND (power), AD17 GND (power), AE4 GND (power), AE14 GND (power), AE24 GND (power), AF1 GND (power), AF11 GND (power), AF21 GND (power), B4 GND (power), B7 GND (power), B13 GND (power), B23 GND (power), C1 GND (power), C5 GND (power), C7 GND (power), C10 GND (power), C20 GND (power), D4 GND (power), D7 GND (power), D17 GND (power), E1 GND (power), E2 GND (power), E5 GND (power), E7 GND (power), E14 GND (power), E24 GND (power), F3 GND (power), F4 GND (power), F7 GND (power), F11 GND (power), F21 GND (power), G1 GND (power), G5 GND (power), G8 GND (power), G18 GND (power), H4 GND (power), H7 GND (power), H15 GND (power), H25 GND (power), J1 GND (power), J2 GND (power), J5 GND (power), J12 GND (power), J22 GND (power), K3 GND (power), K4 GND (power), K7 GND (power), K9 GND (power), K11 GND (power), K13 GND (power), K19 GND (power), L1 GND (power), L5 GND (power), L10 GND (power), L12 GND (power), L14 GND (power), L16 GND (power), L26 GND (power), M4 GND (power), M7 GND (power), M9 GND (power), M11 GNDADC_0 (power), M13 GND (power), M15 GND (power), M23 GND (power), N1 GND (power), N2 GND (power), N5 GND (power), N7 GND (power), N10 GND (power), N14 GND (power), N20 GND (power), P3 GND (power), P4 GND (power), P9 GND (power), P13 GND (power), P15 GND (power), P17 GND (power), R1 GND (power), R2 GND (power), R5 GND (power), R8 GND (power), R10 GND (power), R14 GND (power), R24 GND (power), T1 GND (power), T3 GND (power), T4 GND (power), T9 GND (power), T11 GND (power), T13 GND (power), T15 GND (power), T21 GND (power), U8 GND (power), U10 GND (power), U12 GND (power), U14 GND (power), U18 GND (power), V5 GND (power), V15 GND (power), V25 GND (power), W2 GND (power), W12 GND (power), W22 GND (power), Y9 GND (power), Y19 GND (power)
part A text: BANK 12
part B text: BANK 13
part C text: BANK 14
part D text: BANK 15
part E text: BANK 16
part F text: BANK 32
part G text: BANK 33
part H text: BANK 34

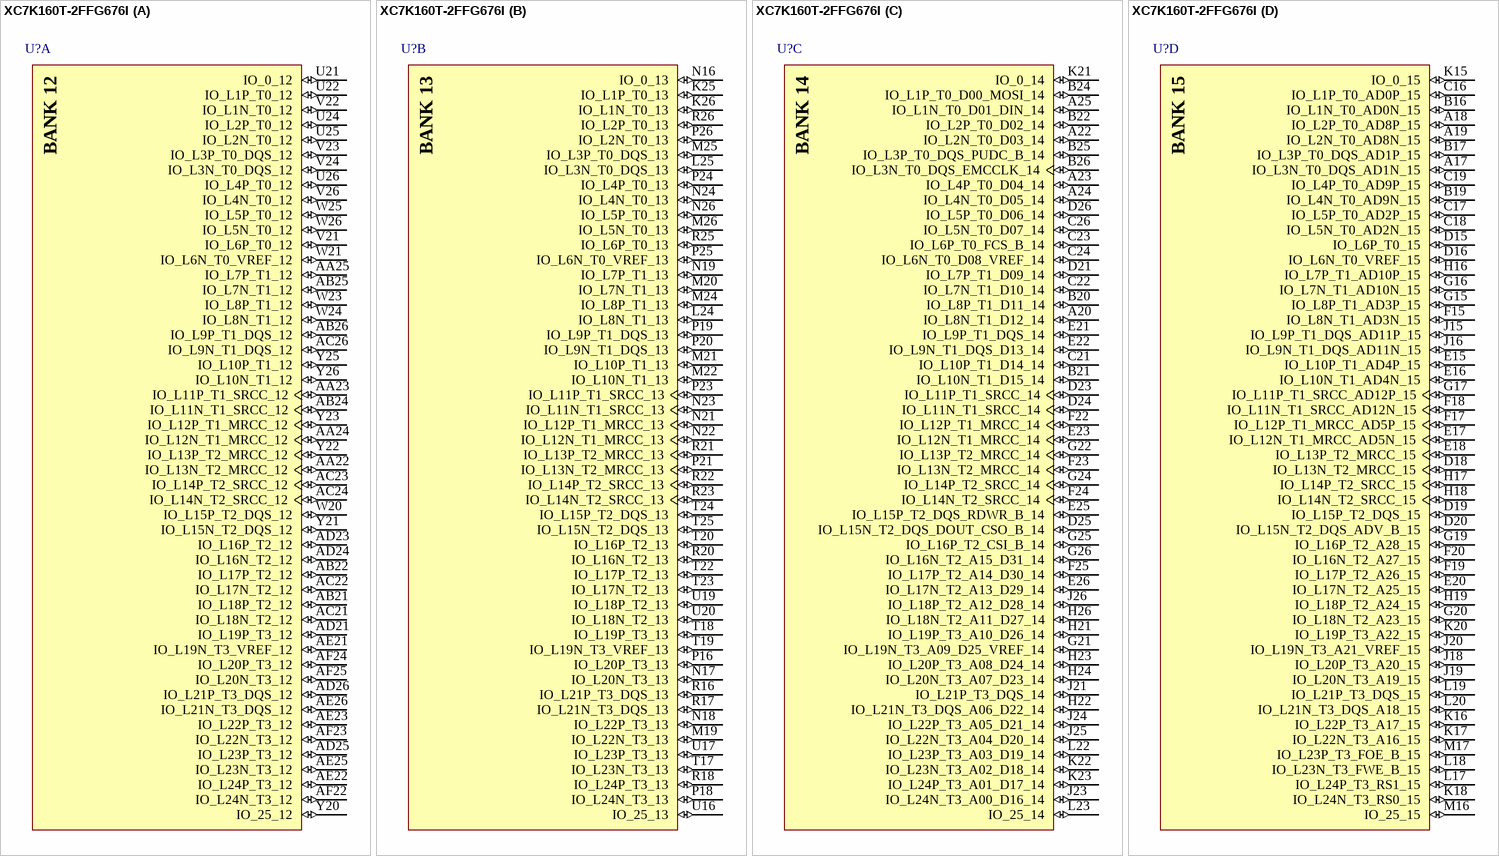
[diagram p49: symbol XC7K160T-2FFG676I]

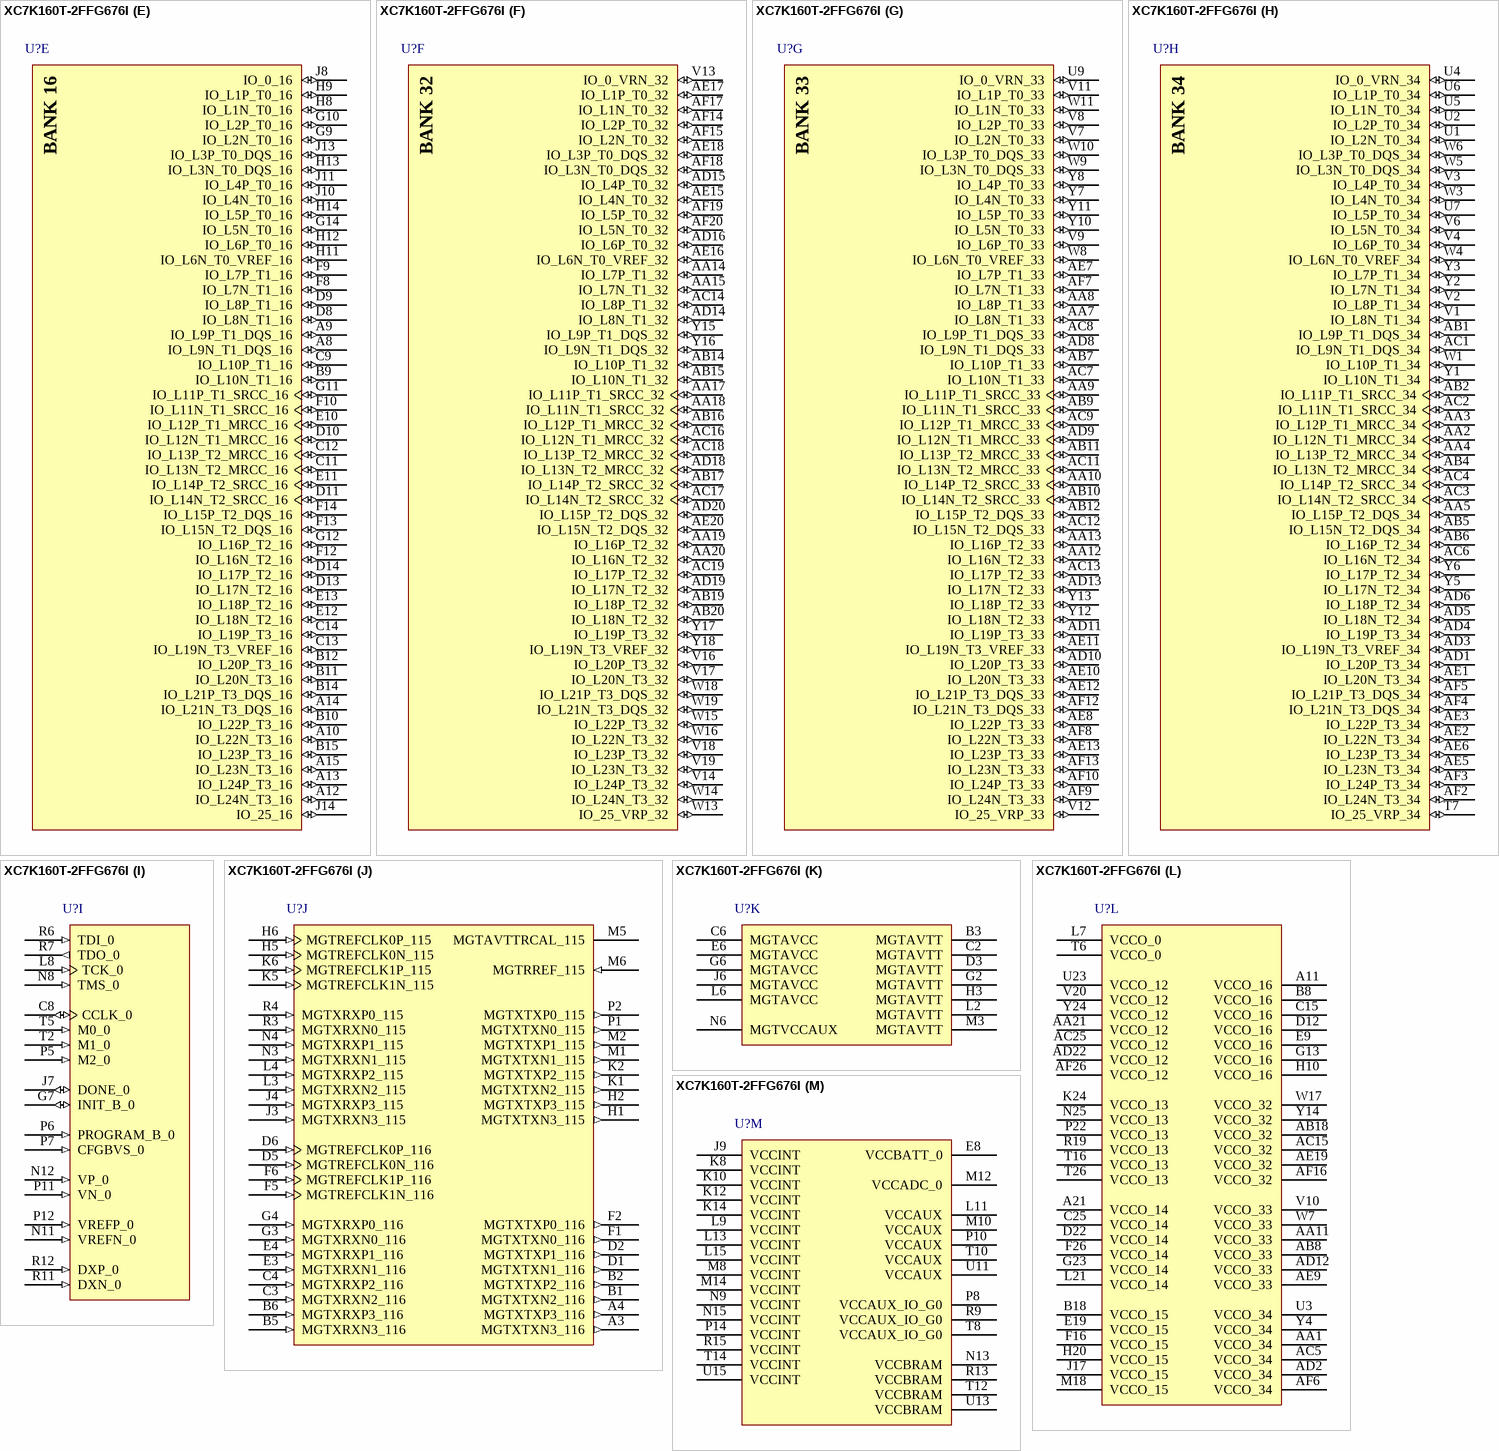
[diagram p50: symbol XC7K160T-2FFG676I]

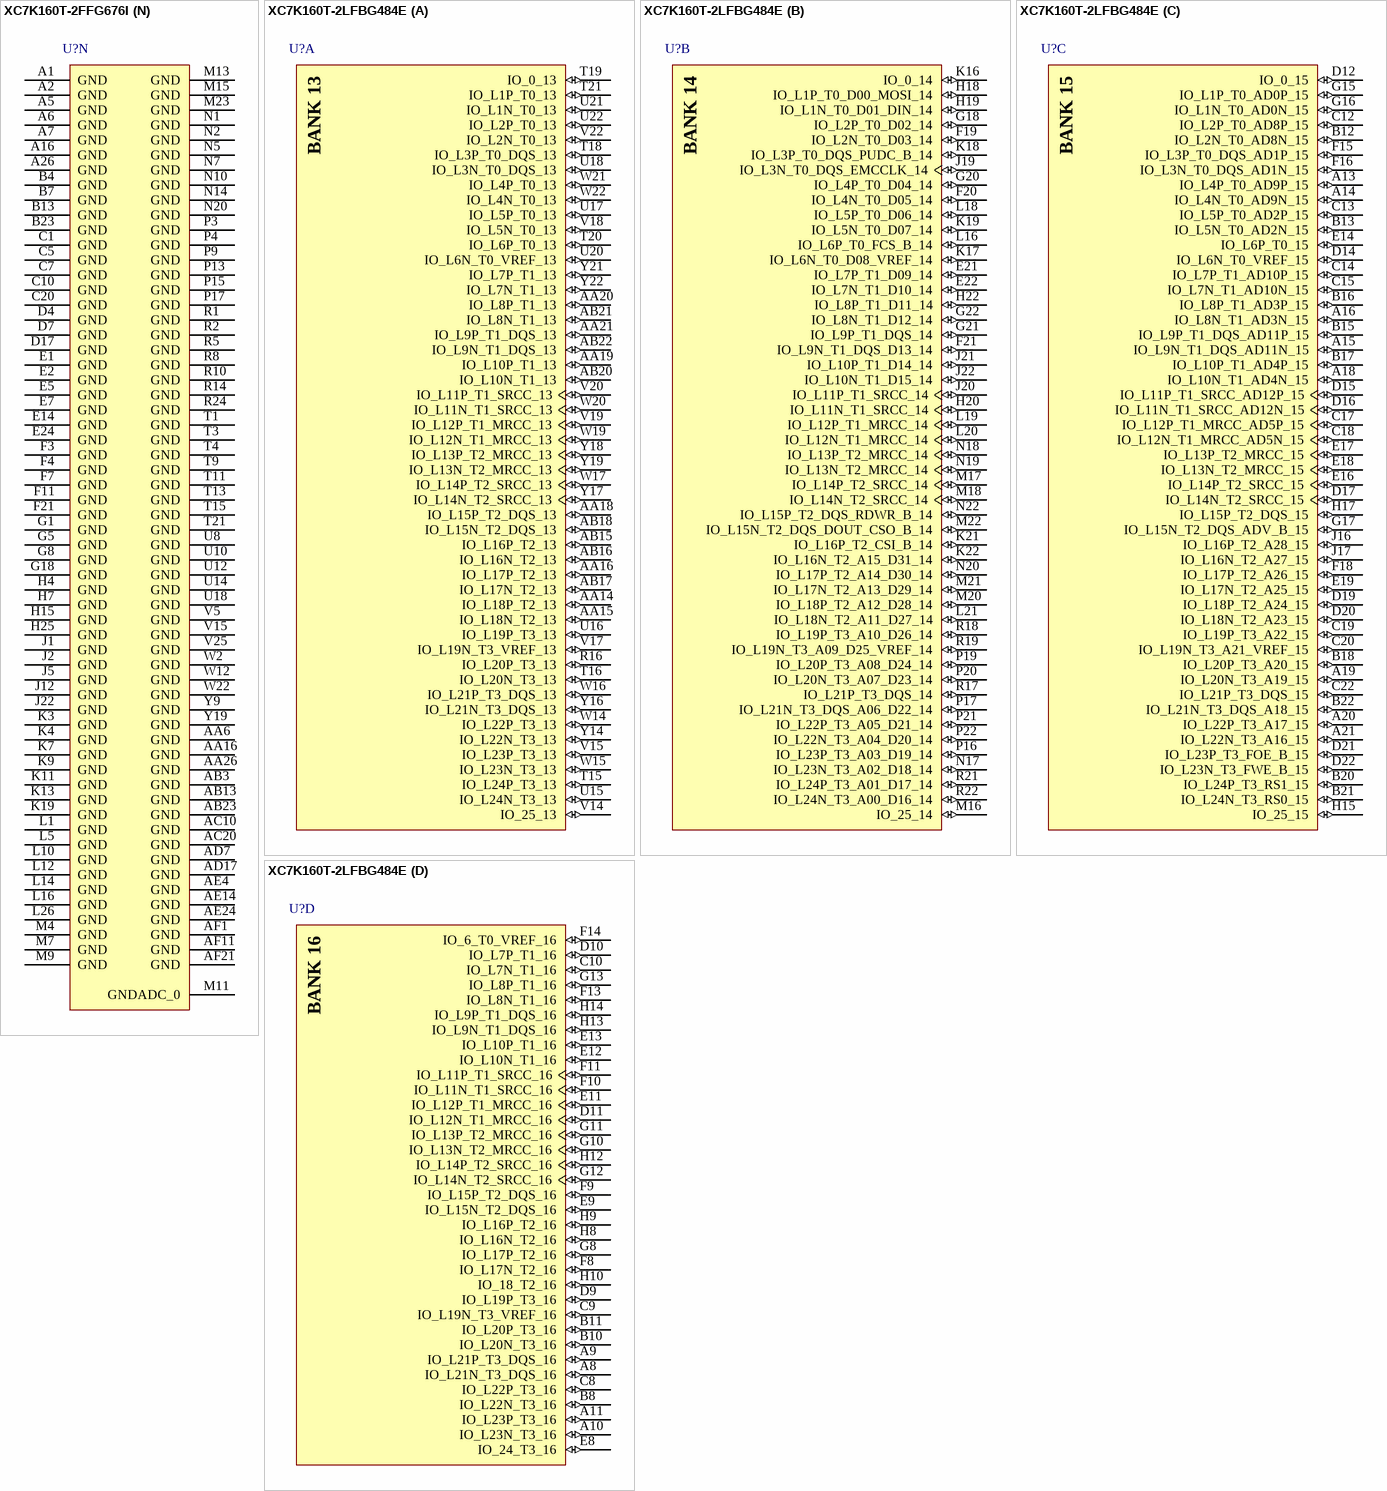
[diagram p51: symbols XC7K160T-2FFG676I to XC7K160T-2LFBG484E]